# Altium footprint library RY611024.PcbLib: 1 footprints
Each footprint in its own frame and in the unit in brackets; x right, y up, seen from the top. Pads: shape width x height; smd on the part's side, far side on the other; paste and mask are expansions set on the pad; w line width, h text height; cw(c..) or ccw(c..) is an arc to the next point about the centre after c.
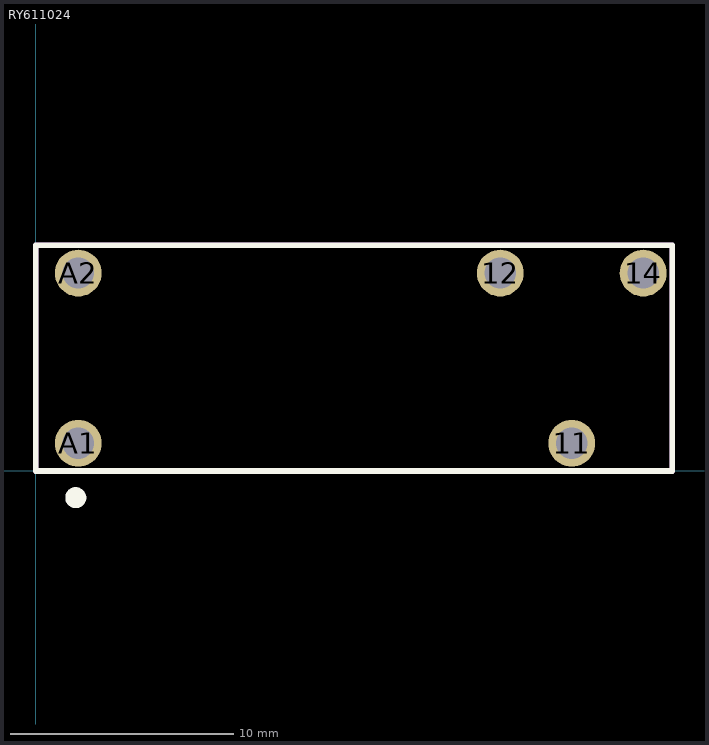
[diagram p0: the footprint, top view; thin cyan lines are the x and y axes]

## RY611024 [mm]
pads (5):
  round 2.1 hole 1.4: 11(24,1.24) 12(20.8,8.86) 14(27.2,8.86) A1(1.9,1.24) A2(1.9,8.86)
Top Overlay:
  circle w0.5: c1.789,-1.198 r0.221
  lines w0.254: 0,0 0,10.1 28.5,10.1 28.5,0 0,0
Mechanical 13:
  lines w0.254: 0,0 28.5,0 28.5,10.1 0,10.1 0,0
3D body "1393225-6--3DModel-STEP-1.STEP": height 12.3, standoff -3.2, extent -0.026,0.03 28.474,10.13